# Altium integrated library resitor-0805.IntLib: 3 symbols
Pins are listed as number, name and electrical type; pins without a type are passive.

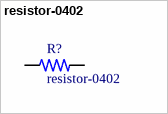
[diagram p0: symbol resistor-0402]

## resistor-0402
designator R?
Resistor 0402 (1005 Metric) Moisture Resistant Thick Film
footprint resistor-0402 (Resistor 0402 (1005 Metric) Moisture Resistant Thick Film)
pins: 1, 2


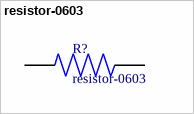
[diagram p1: symbol resistor-0603]

## resistor-0603
designator R?
Resistor 0603 (1608 Metric) Moisture Resistant Thick Film
footprint resistor-0603 (Resistor 0603 (1608 Metric) Moisture Resistant Thick Film)
pins: 1, 2


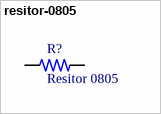
[diagram p2: symbol resitor-0805]

## resitor-0805
designator R?, comment Resitor 0805
1/2W Chip Resistor 0805 (2012 Metric) Pulse Withstanding Thick Film
footprint resitor-0805
pins: 1, 2